# Altium schematic symbol library LCM 19264.SchLib: 1 symbol
Pins are listed as number, name and electrical type; pins without a type are passive.

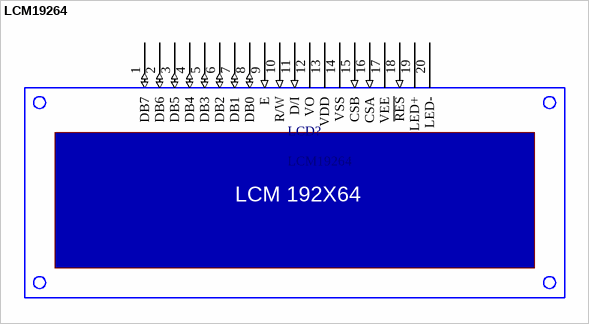
[diagram p0: symbol LCM19264]

## LCM19264
designator LCD?
pins: 1 DB7 (io), 2 DB6 (io), 3 DB5 (io), 4 DB4 (io), 5 DB3 (io), 6 DB2 (io), 7 DB1 (io), 8 DB0 (io), 9 E (in), 10 R/W (in), 11 D/I (in), 12 VO, 13 VDD (power), 14 VSS (power), 15 CSB (in), 16 CSA (in), 17 VEE (power), 18 ~{RES} (in), 19 LED+ (power), 20 LED- (power)
text: LCM 192X64